# EAGLE library part OVM7690 (library Oles komponentbibliotek)
Color CMOS digital/analog NTSC/PAL image sensor with OmniPixel3-HS technology
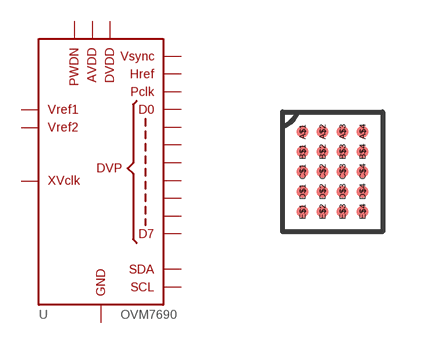
[diagram p19: symbol with the pads of CAMERACUBE; footprint CAMERACUBE]

Designator prefix -

## OVM7690  [CAMERACUBE]
A$1  PWDN  in
A$2  AVDD  pwr
A$3  VREF2  pwr
A$4  VREF1  pwr
B$1  SDA  out
B$2  SCL  in
B$3  D0  out
B$4  D1  out
C$1  HREF  out
C$2  VSYNC  out
C$3  GND  pwr
C$4  D2  out
D$1  PCLK  out
D$2  XVCLK  in
D$3  D5  out
D$4  D3  out
E$1  D7  out
E$2  D6  out
E$3  D4  out
E$4  DOVDD  pwr

## Footprint CAMERACUBE (pad centres in mm)
smd 0.305 x 0.305: A$1 -1,1; A$2 -0.5,1; A$3 0,1; A$4 0.5,1; B$1 -1,0.5; B$2 -0.5,0.5; B$3 0,0.5; B$4 0.5,0.5; C$1 -1,0; C$2 -0.5,0; C$3 0,0; C$4 0.5,0; D$1 -1,-0.5; D$2 -0.5,-0.5; D$3 0,-0.5; D$4 0.5,-0.5; E$1 -1,-1; E$2 -0.5,-1; E$3 0,-1; E$4 0.5,-1